# Altium footprint library resistors.PcbLib: 9 footprints
Each footprint in its own frame and in the unit in brackets; x right, y up, seen from the top. Pads: shape width x height; smd on the part's side, far side on the other; paste and mask are expansions set on the pad; w line width, h text height; cw(c..) or ccw(c..) is an arc to the next point about the centre after c.
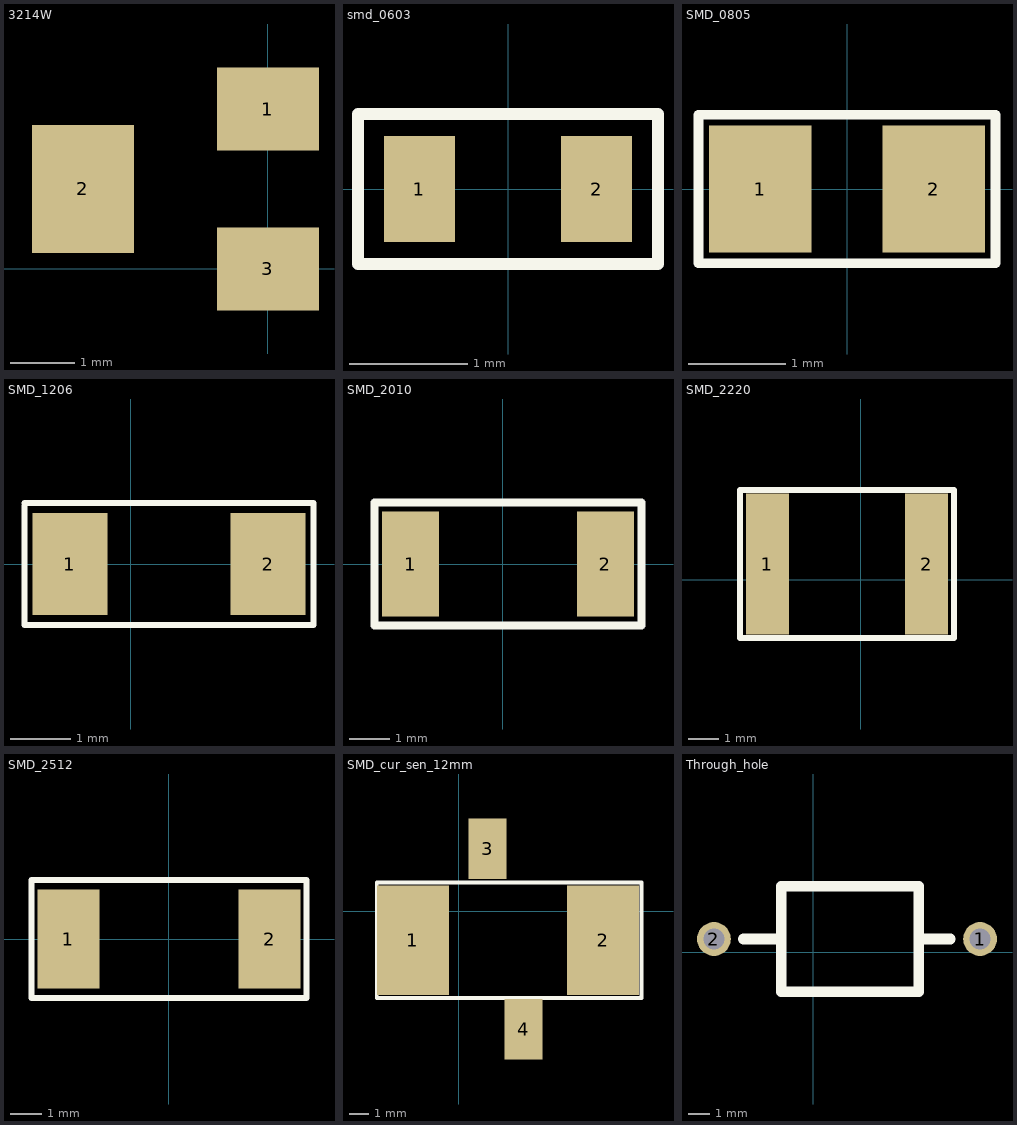
[diagram p0: the footprints below, top view; thin cyan lines are the x and y axes]

## 3214W [mm]
pads (3):
  rect 1.6x1.3 smd: 1(0,2.5) 3(0,0)
  rect 1.6x2 smd: 2(-2.9,1.25)
3D body: height 5.11, standoff -0.2, extent -3.498,-1.117 0.704,3.683

## smd_0603 [mm]
pads (2):
  rect 0.6x0.9 smd: 1(-0.75,0) 2(0.75,0)
Top Overlay:
  lines w0.1: -1.27,-0.635 1.27,-0.635 1.27,0.635 -1.27,0.635 -1.27,0.028 -1.27,-0.635

## SMD_0805 [mm]
pads (2):
  rect 1.05x1.3 smd: 1(-0.889,0) 2(0.889,0)
Top Overlay:
  lines w0.1: -1.524,-0.762 -1.524,-0.224 -1.524,0.762 1.524,0.762 1.524,-0.762 -1.524,-0.762

## SMD_1206 [mm]
pads (2):
  rect 1.25x1.7 smd: 1(-1.016,0) 2(2.286,0)
Top Overlay:
  lines w0.1: -1.778,0.972 -1.778,-1.016 3.048,-1.016 3.048,1.016 -1.778,1.016

## SMD_2010 [mm]
pads (2):
  rect 1.4x2.6 smd: 1(-2.286,0) 2(2.54,0)
Top Overlay:
  lines w0.2: -3.175,-1.524 -3.175,-0.823 -3.175,-0.574 -3.175,0.225 -3.175,1.524 3.429,1.524 3.429,-0.529 3.429,-1.524 -1.213,-1.524 -3.175,-1.524

## SMD_2220 [mm]
pads (2):
  rect 1.4x4.6 smd: 1(-3.048,0.508) 2(2.159,0.508)
Top Overlay:
  lines w0.2: -3.937,-1.905 -0.705,-1.905 3.048,-1.905 3.048,-0.021 3.048,2.921 -3.937,2.921 -3.937,1.114 -3.937,0.315 -3.937,-0.696 -3.937,-1.905

## SMD_2512 [mm]
pads (2):
  rect 2x3.2 smd: 1(-3.25,0) 2(3.25,0)
Top Overlay:
  lines w0.2: -4.445,-1.905 4.445,-1.905 4.445,1.905 -4.445,1.905 -4.445,-1.595 -4.445,-1.905

## SMD_cur_sen_12mm [mm]
pads (4):
  rect 3.8x5.8 smd: 1(-2.413,-1.524) 2(7.62,-1.524)
  rect 2x3.2 smd: 3(1.524,3.302) 4(3.429,-6.223)
Top Overlay:
  lines w0.2: -4.318,-4.572 -4.318,-1.722 -4.318,1.524 9.652,1.524 9.652,-4.572 -4.318,-4.572

## Through_hole [mm]
pads (2):
  round 1.6 hole 1: 1(7.874,0.635) 2(-4.699,0.635)
Top Overlay:
  lines w0.5: -3.302,0.635 -1.802,0.635 ; 4.975,0.635 6.475,0.635 ; -1.524,-1.865 -1.524,3.135 4.975,3.135 4.975,0.135 4.975,-1.865 -1.524,-1.865